# EAGLE library part EPF10K30-FBGA484 (library altera)
EPF10K30A FLEX 10K family
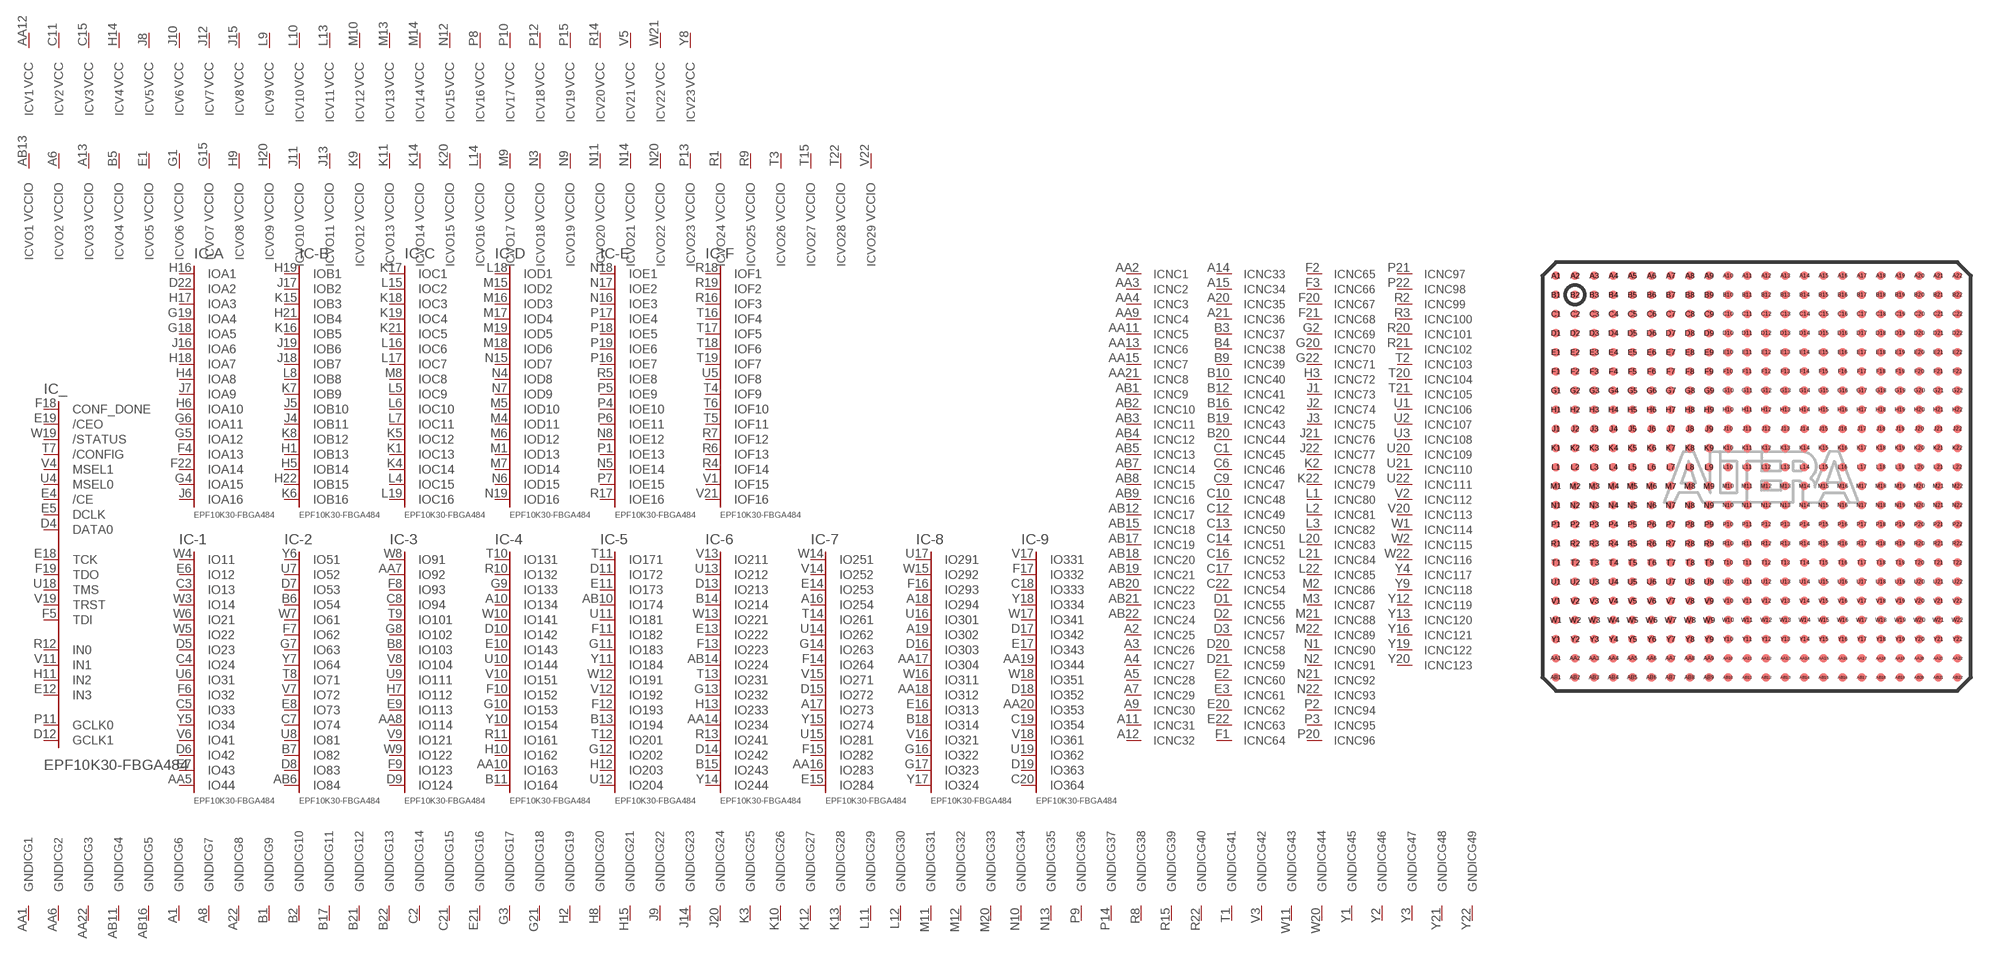
[diagram p51: symbol with the pads of FBGA484; footprint FBGA484]

Designator prefix IC; gates _=100R240C -A=A16 -B=B16 -C=C16 -D=D16 -E=E16 -F=F16 -1=IO44 -2=IO84 -3=IO124 -4=IO164 -5=IO204 -6=IO244 -7=IO284 -8=IO324 -9=IO364 G1=GND G2=GND G3=GND G4=GND G5=GND G6=GND G7=GND G8=GND G9=GND G10=GND G11=GND G12=GND G13=GND G14=GND G15=GND G16=GND G17=GND G18=GND G19=GND G20=GND G21=GND G22=GND G23=GND G24=GND G25=GND G26=GND G27=GND G28=GND G29=GND G30=GND G31=GND G32=GND G33=GND G34=GND G35=GND G36=GND G37=GND G38=GND G39=GND G40=GND G41=GND G42=GND G43=GND G44=GND G45=GND G46=GND G47=GND G48=GND G49=GND NC1=NC NC2=NC NC3=NC NC4=NC NC5=NC NC6=NC NC7=NC NC8=NC NC9=NC NC10=NC NC11=NC NC12=NC NC13=NC NC14=NC NC15=NC NC16=NC NC17=NC NC18=NC NC19=NC NC20=NC NC21=NC NC22=NC NC23=NC NC24=NC NC25=NC NC26=NC NC27=NC NC28=NC NC29=NC NC30=NC NC31=NC NC32=NC NC33=NC NC34=NC NC35=NC NC36=NC NC37=NC NC38=NC NC39=NC NC40=NC NC41=NC NC42=NC NC43=NC NC44=NC NC45=NC NC46=NC NC47=NC NC48=NC NC49=NC NC50=NC NC51=NC NC52=NC NC53=NC NC54=NC NC55=NC NC56=NC NC57=NC NC58=NC NC59=NC NC60=NC NC61=NC NC62=NC NC63=NC NC64=NC NC65=NC NC66=NC NC67=NC NC68=NC NC69=NC NC70=NC NC71=NC NC72=NC NC73=NC NC74=NC NC75=NC NC76=NC NC77=NC NC78=NC NC79=NC NC80=NC NC81=NC NC82=NC NC83=NC NC84=NC NC85=NC NC86=NC NC87=NC NC88=NC NC89=NC NC90=NC NC91=NC NC92=NC NC93=NC NC94=NC NC95=NC NC96=NC NC97=NC NC98=NC NC99=NC NC100=NC NC101=NC NC102=NC NC103=NC NC104=NC NC105=NC NC106=NC NC107=NC NC108=NC NC109=NC NC110=NC NC111=NC NC112=NC NC113=NC NC114=NC NC115=NC NC116=NC NC117=NC NC118=NC NC119=NC NC120=NC NC121=NC NC122=NC NC123=NC V1=VCCINT V2=VCCINT V3=VCCINT V4=VCCINT V5=VCCINT V6=VCCINT V7=VCCINT V8=VCCINT V9=VCCINT V10=VCCINT V11=VCCINT V12=VCCINT V13=VCCINT V14=VCCINT V15=VCCINT V16=VCCINT V17=VCCINT V18=VCCINT V19=VCCINT V20=VCCINT V21=VCCINT V22=VCCINT V23=VCCINT VO1=VCCIO VO2=VCCIO VO3=VCCIO VO4=VCCIO VO5=VCCIO VO6=VCCIO VO7=VCCIO VO8=VCCIO VO9=VCCIO VO10=VCCIO VO11=VCCIO VO12=VCCIO VO13=VCCIO VO14=VCCIO VO15=VCCIO VO16=VCCIO VO17=VCCIO VO18=VCCIO VO19=VCCIO VO20=VCCIO VO21=VCCIO VO22=VCCIO VO23=VCCIO VO24=VCCIO VO25=VCCIO VO26=VCCIO VO27=VCCIO VO28=VCCIO VO29=VCCIO

## EPF10K30-FBGA484  [FBGA484]
A1  G6:GND  pwr
A2  NC25:NC  nc
A3  NC26:NC  nc
A4  NC27:NC  nc
A5  NC28:NC  nc
A6  VO2:VCCIO  pwr
A7  NC29:NC  nc
A8  G7:GND  pwr
A9  NC30:NC  nc
A10  -4:IO134
A11  NC31:NC  nc
A12  NC32:NC  nc
A13  VO3:VCCIO  pwr
A14  NC33:NC  nc
A15  NC34:NC  nc
A16  -7:IO254
A17  -7:IO273
A18  -8:IO294
A19  -8:IO302
A20  NC35:NC  nc
A21  NC36:NC  nc
A22  G8:GND  pwr
AA1  G1:GND  pwr
AA2  NC1:NC  nc
AA3  NC2:NC  nc
AA4  NC3:NC  nc
AA5  -1:IO44
AA6  G2:GND  pwr
AA7  -3:IO92
AA8  -3:IO114
AA9  NC4:NC  nc
AA10  -4:IO163
AA11  NC5:NC  nc
AA12  V1:VCC  pwr
AA13  NC6:NC  nc
AA14  -6:IO234
AA15  NC7:NC  nc
AA16  -7:IO283
AA17  -8:IO304
AA18  -8:IO312
AA19  -9:IO344
AA20  -9:IO353
AA21  NC8:NC  nc
AA22  G3:GND  pwr
AB1  NC9:NC  nc
AB2  NC10:NC  nc
AB3  NC11:NC  nc
AB4  NC12:NC  nc
AB5  NC13:NC  nc
AB6  -2:IO84
AB7  NC14:NC  nc
AB8  NC15:NC  nc
AB9  NC16:NC  nc
AB10  -5:IO174
AB11  G4:GND  pwr
AB12  NC17:NC  nc
AB13  VO1:VCCIO  pwr
AB14  -6:IO224
AB15  NC18:NC  nc
AB16  G5:GND  pwr
AB17  NC19:NC  nc
AB18  NC20:NC  nc
AB19  NC21:NC  nc
AB20  NC22:NC  nc
AB21  NC23:NC  nc
AB22  NC24:NC  nc
B1  G9:GND  pwr
B2  G10:GND  pwr
B3  NC37:NC  nc
B4  NC38:NC  nc
B5  VO4:VCCIO  pwr
B6  -2:IO54
B7  -2:IO82
B8  -3:IO103
B9  NC39:NC  nc
B10  NC40:NC  nc
B11  -4:IO164
B12  NC41:NC  nc
B13  -5:IO194
B14  -6:IO214
B15  -6:IO243
B16  NC42:NC  nc
B17  G11:GND  pwr
B18  -8:IO314
B19  NC43:NC  nc
B20  NC44:NC  nc
B21  G12:GND  pwr
B22  G13:GND  pwr
C1  NC45:NC  nc
C2  G14:GND  pwr
C3  -1:IO13
C4  -1:IO24
C5  -1:IO33
C6  NC46:NC  nc
C7  -2:IO74
C8  -3:IO94
C9  NC47:NC  nc
C10  NC48:NC  nc
C11  V2:VCC  pwr
C12  NC49:NC  nc
C13  NC50:NC  nc
C14  NC51:NC  nc
C15  V3:VCC  pwr
C16  NC52:NC  nc
C17  NC53:NC  nc
C18  -9:IO333
C19  -9:IO354
C20  -9:IO364
C21  G15:GND  pwr
C22  NC54:NC  nc
D1  NC55:NC  nc
D2  NC56:NC  nc
D3  NC57:NC  nc
D4  _:DATA0  in
D5  -1:IO23
D6  -1:IO42
D7  -2:IO53
D8  -2:IO83
D9  -3:IO124
D10  -4:IO142
D11  -5:IO172
D12  _:GCLK1  in
D13  -6:IO213
D14  -6:IO242
D15  -7:IO272
D16  -8:IO303
D17  -9:IO342
D18  -9:IO352
D19  -9:IO363
D20  NC58:NC  nc
D21  NC59:NC  nc
D22  -A:IOA2
E1  VO5:VCCIO  pwr
E2  NC60:NC  nc
E3  NC61:NC  nc
E4  _:/CE  in
E5  _:DCLK  in
E6  -1:IO12
E7  -1:IO43
E8  -2:IO73
E9  -3:IO113
E10  -4:IO143
E11  -5:IO173
E12  _:IN3  in
E13  -6:IO222
E14  -7:IO253
E15  -7:IO284
E16  -8:IO313
E17  -9:IO343
E18  _:TCK
E19  _:/CEO  in
E20  NC62:NC  nc
E21  G16:GND  pwr
E22  NC63:NC  nc
F1  NC64:NC  nc
F2  NC65:NC  nc
F3  NC66:NC  nc
F4  -A:IOA13
F5  _:TDI
F6  -1:IO32
F7  -2:IO62
F8  -3:IO93
F9  -3:IO123
F10  -4:IO152
F11  -5:IO182
F12  -5:IO193
F13  -6:IO223
F14  -7:IO264
F15  -7:IO282
F16  -8:IO293
F17  -9:IO332
F18  _:CONF_DONE  in
F19  _:TDO
F20  NC67:NC  nc
F21  NC68:NC  nc
F22  -A:IOA14
G1  VO6:VCCIO  pwr
G2  NC69:NC  nc
G3  G17:GND  pwr
G4  -A:IOA15
G5  -A:IOA12
G6  -A:IOA11
G7  -2:IO63
G8  -3:IO102
G9  -4:IO133
G10  -4:IO153
G11  -5:IO183
G12  -5:IO202
G13  -6:IO232
G14  -7:IO263
G15  VO7:VCCIO  pwr
G16  -8:IO322
G17  -8:IO323
G18  -A:IOA5
G19  -A:IOA4
G20  NC70:NC  nc
G21  G18:GND  pwr
G22  NC71:NC  nc
H1  -B:IOB13
H2  G19:GND  pwr
H3  NC72:NC  nc
H4  -A:IOA8
H5  -B:IOB14
H6  -A:IOA10
H7  -3:IO112
H8  G20:GND  pwr
H9  VO8:VCCIO  pwr
H10  -4:IO162
H11  _:IN2  in
H12  -5:IO203
H13  -6:IO233
H14  V4:VCC  pwr
H15  G21:GND  pwr
H16  -A:IOA1
H17  -A:IOA3
H18  -A:IOA7
H19  -B:IOB1
H20  VO9:VCCIO  pwr
H21  -B:IOB4
H22  -B:IOB15
J1  NC73:NC  nc
J2  NC74:NC  nc
J3  NC75:NC  nc
J4  -B:IOB11
J5  -B:IOB10
J6  -A:IOA16
J7  -A:IOA9
J8  V5:VCC  pwr
J9  G22:GND  pwr
J10  V6:VCC  pwr
J11  VO10:VCCIO  pwr
J12  V7:VCC  pwr
J13  VO11:VCCIO  pwr
J14  G23:GND  pwr
J15  V8:VCC  pwr
J16  -A:IOA6
J17  -B:IOB2
J18  -B:IOB7
J19  -B:IOB6
J20  G24:GND  pwr
J21  NC76:NC  nc
J22  NC77:NC  nc
K1  -C:IOC13
K2  NC78:NC  nc
K3  G25:GND  pwr
K4  -C:IOC14
K5  -C:IOC12
K6  -B:IOB16
K7  -B:IOB9
K8  -B:IOB12
K9  VO12:VCCIO  pwr
K10  G26:GND  pwr
K11  VO13:VCCIO  pwr
K12  G27:GND  pwr
K13  G28:GND  pwr
K14  VO14:VCCIO  pwr
K15  -B:IOB3
K16  -B:IOB5
K17  -C:IOC1
K18  -C:IOC3
K19  -C:IOC4
K20  VO15:VCCIO  pwr
K21  -C:IOC5
K22  NC79:NC  nc
L1  NC80:NC  nc
L2  NC81:NC  nc
L3  NC82:NC  nc
L4  -C:IOC15
L5  -C:IOC9
L6  -C:IOC10
L7  -C:IOC11
L8  -B:IOB8
L9  V9:VCC  pwr
L10  V10:VCC  pwr
L11  G29:GND  pwr
L12  G30:GND  pwr
L13  V11:VCC  pwr
L14  VO16:VCCIO  pwr
L15  -C:IOC2
L16  -C:IOC6
L17  -C:IOC7
L18  -D:IOD1
L19  -C:IOC16
L20  NC83:NC  nc
L21  NC84:NC  nc
L22  NC85:NC  nc
M1  -D:IOD13
M2  NC86:NC  nc
M3  NC87:NC  nc
M4  -D:IOD11
M5  -D:IOD10
M6  -D:IOD12
M7  -D:IOD14
M8  -C:IOC8
M9  VO17:VCCIO  pwr
M10  V12:VCC  pwr
M11  G31:GND  pwr
M12  G32:GND  pwr
M13  V13:VCC  pwr
M14  V14:VCC  pwr
M15  -D:IOD2
M16  -D:IOD3
M17  -D:IOD4
M18  -D:IOD6
M19  -D:IOD5
M20  G33:GND  pwr
M21  NC88:NC  nc
M22  NC89:NC  nc
N1  NC90:NC  nc
N2  NC91:NC  nc
N3  VO18:VCCIO  pwr
N4  -D:IOD8
N5  -E:IOE14
N6  -D:IOD15
N7  -D:IOD9
N8  -E:IOE12
N9  VO19:VCCIO  pwr
N10  G34:GND  pwr
N11  VO20:VCCIO  pwr
N12  V15:VCC  pwr
N13  G35:GND  pwr
N14  VO21:VCCIO  pwr
N15  -D:IOD7
N16  -E:IOE3
N17  -E:IOE2
N18  -E:IOE1
N19  -D:IOD16
N20  VO22:VCCIO  pwr
N21  NC92:NC  nc
N22  NC93:NC  nc
P1  -E:IOE13
P2  NC94:NC  nc
P3  NC95:NC  nc
P4  -E:IOE10
P5  -E:IOE9
P6  -E:IOE11
P7  -E:IOE15
P8  V16:VCC  pwr
P9  G36:GND  pwr
P10  V17:VCC  pwr
P11  _:GCLK0  in
P12  V18:VCC  pwr
P13  VO23:VCCIO  pwr
P14  G37:GND  pwr
P15  V19:VCC  pwr
P16  -E:IOE7
P17  -E:IOE4
P18  -E:IOE5
P19  -E:IOE6
P20  NC96:NC  nc
P21  NC97:NC  nc
P22  NC98:NC  nc
R1  VO24:VCCIO  pwr
R2  NC99:NC  nc
R3  NC100:NC  nc
R4  -F:IOF14
R5  -E:IOE8
R6  -F:IOF13
R7  -F:IOF12
R8  G38:GND  pwr
R9  VO25:VCCIO  pwr
R10  -4:IO132
R11  -4:IO161
R12  _:IN0  in
R13  -6:IO241
R14  V20:VCC  pwr
R15  G39:GND  pwr
R16  -F:IOF3
R17  -E:IOE16
R18  -F:IOF1
R19  -F:IOF2
R20  NC101:NC  nc
R21  NC102:NC  nc
R22  G40:GND  pwr
T1  G41:GND  pwr
T2  NC103:NC  nc
T3  VO26:VCCIO  pwr
T4  -F:IOF9
T5  -F:IOF11
T6  -F:IOF10
T7  _:/CONFIG  in
T8  -2:IO71
T9  -3:IO101
T10  -4:IO131
T11  -5:IO171
T12  -5:IO201
T13  -6:IO231
T14  -7:IO261
T15  VO27:VCCIO  pwr
T16  -F:IOF4
T17  -F:IOF5
T18  -F:IOF6
T19  -F:IOF7
T20  NC104:NC  nc
T21  NC105:NC  nc
T22  VO28:VCCIO  pwr
U1  NC106:NC  nc
U2  NC107:NC  nc
U3  NC108:NC  nc
U4  _:MSEL0  in
U5  -F:IOF8
U6  -1:IO31
U7  -2:IO52
U8  -2:IO81
U9  -3:IO111
U10  -4:IO144
U11  -5:IO181
U12  -5:IO204
U13  -6:IO212
U14  -7:IO262
U15  -7:IO281
U16  -8:IO301
U17  -8:IO291
U18  _:TMS
U19  -9:IO362
U20  NC109:NC  nc
U21  NC110:NC  nc
U22  NC111:NC  nc
V1  -F:IOF15
V2  NC112:NC  nc
V3  G42:GND  pwr
V4  _:MSEL1  in
V5  V21:VCC  pwr
V6  -1:IO41
V7  -2:IO72
V8  -3:IO104
V9  -3:IO121
V10  -4:IO151
V11  _:IN1  in
V12  -5:IO192
V13  -6:IO211
V14  -7:IO252
V15  -7:IO271
V16  -8:IO321
V17  -9:IO331
V18  -9:IO361
V19  _:TRST
V20  NC113:NC  nc
V21  -F:IOF16
V22  VO29:VCCIO  pwr
W1  NC114:NC  nc
W2  NC115:NC  nc
W3  -1:IO14
W4  -1:IO11
W5  -1:IO22
W6  -1:IO21
W7  -2:IO61
W8  -3:IO91
W9  -3:IO122
W10  -4:IO141
W11  G43:GND  pwr
W12  -5:IO191
W13  -6:IO221
W14  -7:IO251
W15  -8:IO292
W16  -8:IO311
W17  -9:IO341
W18  -9:IO351
W19  _:/STATUS  in
W20  G44:GND  pwr
W21  V22:VCC  pwr
W22  NC116:NC  nc
Y1  G45:GND  pwr
Y2  G46:GND  pwr
Y3  G47:GND  pwr
Y4  NC117:NC  nc
Y5  -1:IO34
Y6  -2:IO51
Y7  -2:IO64
Y8  V23:VCC  pwr
Y9  NC118:NC  nc
Y10  -4:IO154
Y11  -5:IO184
Y12  NC119:NC  nc
Y13  NC120:NC  nc
Y14  -6:IO244
Y15  -7:IO274
Y16  NC121:NC  nc
Y17  -8:IO324
Y18  -9:IO334
Y19  NC122:NC  nc
Y20  NC123:NC  nc
Y21  G48:GND  pwr
Y22  G49:GND  pwr

## Footprint FBGA484 (pad centres in mm)
Fine Ball Grid Array
smd 0.45 x 0.45: A1 -10.5,10.5; A2 -9.5,10.5; A3 -8.5,10.5; A4 -7.5,10.5; A5 -6.5,10.5; A6 -5.5,10.5; A7 -4.5,10.5; A8 -3.5,10.5; A9 -2.5,10.5; A10 -1.5,10.5; A11 -0.5,10.5; A12 0.5,10.5; A13 1.5,10.5; A14 2.5,10.5; A15 3.5,10.5; A16 4.5,10.5; A17 5.5,10.5; A18 6.5,10.5; A19 7.5,10.5; A20 8.5,10.5; A21 9.5,10.5; A22 10.5,10.5; AA1 -10.5,-9.5; AA2 -9.5,-9.5; AA3 -8.5,-9.5; AA4 -7.5,-9.5; AA5 -6.5,-9.5; AA6 -5.5,-9.5; AA7 -4.5,-9.5; AA8 -3.5,-9.5; AA9 -2.5,-9.5; AA10 -1.5,-9.5; AA11 -0.5,-9.5; AA12 0.5,-9.5; AA13 1.5,-9.5; AA14 2.5,-9.5; AA15 3.5,-9.5; AA16 4.5,-9.5; AA17 5.5,-9.5; AA18 6.5,-9.5; AA19 7.5,-9.5; AA20 8.5,-9.5; AA21 9.5,-9.5; AA22 10.5,-9.5; AB1 -10.5,-10.5; AB2 -9.5,-10.5; AB3 -8.5,-10.5; AB4 -7.5,-10.5; AB5 -6.5,-10.5; AB6 -5.5,-10.5; AB7 -4.5,-10.5; AB8 -3.5,-10.5; AB9 -2.5,-10.5; AB10 -1.5,-10.5; AB11 -0.5,-10.5; AB12 0.5,-10.5; AB13 1.5,-10.5; AB14 2.5,-10.5; AB15 3.5,-10.5; AB16 4.5,-10.5; AB17 5.5,-10.5; AB18 6.5,-10.5; AB19 7.5,-10.5; AB20 8.5,-10.5; AB21 9.5,-10.5; AB22 10.5,-10.5; B1 -10.5,9.5; B2 -9.5,9.5; B3 -8.5,9.5; B4 -7.5,9.5; B5 -6.5,9.5; B6 -5.5,9.5; B7 -4.5,9.5; B8 -3.5,9.5; B9 -2.5,9.5; B10 -1.5,9.5; B11 -0.5,9.5; B12 0.5,9.5; B13 1.5,9.5; B14 2.5,9.5; B15 3.5,9.5; B16 4.5,9.5; B17 5.5,9.5; B18 6.5,9.5; B19 7.5,9.5; B20 8.5,9.5; B21 9.5,9.5; B22 10.5,9.5; C1 -10.5,8.5; C2 -9.5,8.5; C3 -8.5,8.5; C4 -7.5,8.5; C5 -6.5,8.5; C6 -5.5,8.5; C7 -4.5,8.5; C8 -3.5,8.5; C9 -2.5,8.5; C10 -1.5,8.5; C11 -0.5,8.5; C12 0.5,8.5; C13 1.5,8.5; C14 2.5,8.5; C15 3.5,8.5; C16 4.5,8.5; C17 5.5,8.5; C18 6.5,8.5; C19 7.5,8.5; C20 8.5,8.5; C21 9.5,8.5; C22 10.5,8.5; D1 -10.5,7.5; D2 -9.5,7.5; D3 -8.5,7.5; D4 -7.5,7.5; D5 -6.5,7.5; D6 -5.5,7.5; D7 -4.5,7.5; D8 -3.5,7.5; D9 -2.5,7.5; D10 -1.5,7.5; D11 -0.5,7.5; D12 0.5,7.5; D13 1.5,7.5; D14 2.5,7.5; D15 3.5,7.5; D16 4.5,7.5; D17 5.5,7.5; D18 6.5,7.5; D19 7.5,7.5; D20 8.5,7.5; D21 9.5,7.5; D22 10.5,7.5; E1 -10.5,6.5; E2 -9.5,6.5; E3 -8.5,6.5; E4 -7.5,6.5; E5 -6.5,6.5; E6 -5.5,6.5; E7 -4.5,6.5; E8 -3.5,6.5; E9 -2.5,6.5; E10 -1.5,6.5; E11 -0.5,6.5; E12 0.5,6.5; E13 1.5,6.5; E14 2.5,6.5; E15 3.5,6.5; E16 4.5,6.5; E17 5.5,6.5; E18 6.5,6.5; E19 7.5,6.5; E20 8.5,6.5; E21 9.5,6.5; E22 10.5,6.5; F1 -10.5,5.5; F2 -9.5,5.5; F3 -8.5,5.5; F4 -7.5,5.5; F5 -6.5,5.5; F6 -5.5,5.5; F7 -4.5,5.5; F8 -3.5,5.5; F9 -2.5,5.5; F10 -1.5,5.5; F11 -0.5,5.5; F12 0.5,5.5; F13 1.5,5.5; F14 2.5,5.5; F15 3.5,5.5; F16 4.5,5.5; F17 5.5,5.5; F18 6.5,5.5; F19 7.5,5.5; F20 8.5,5.5; F21 9.5,5.5; F22 10.5,5.5; G1 -10.5,4.5; G2 -9.5,4.5; G3 -8.5,4.5; G4 -7.5,4.5; G5 -6.5,4.5; G6 -5.5,4.5; G7 -4.5,4.5; G8 -3.5,4.5; G9 -2.5,4.5; G10 -1.5,4.5; G11 -0.5,4.5; G12 0.5,4.5; G13 1.5,4.5; G14 2.5,4.5; G15 3.5,4.5; G16 4.5,4.5; G17 5.5,4.5; G18 6.5,4.5; G19 7.5,4.5; G20 8.5,4.5; G21 9.5,4.5; G22 10.5,4.5; H1 -10.5,3.5; H2 -9.5,3.5; H3 -8.5,3.5; H4 -7.5,3.5; H5 -6.5,3.5; H6 -5.5,3.5; H7 -4.5,3.5; H8 -3.5,3.5; H9 -2.5,3.5; H10 -1.5,3.5; H11 -0.5,3.5; H12 0.5,3.5; H13 1.5,3.5; H14 2.5,3.5; H15 3.5,3.5; H16 4.5,3.5; H17 5.5,3.5; H18 6.5,3.5; H19 7.5,3.5; H20 8.5,3.5; H21 9.5,3.5; H22 10.5,3.5; J1 -10.5,2.5; J2 -9.5,2.5; J3 -8.5,2.5; J4 -7.5,2.5; J5 -6.5,2.5; J6 -5.5,2.5; J7 -4.5,2.5; J8 -3.5,2.5; J9 -2.5,2.5; J10 -1.5,2.5; J11 -0.5,2.5; J12 0.5,2.5; J13 1.5,2.5; J14 2.5,2.5; J15 3.5,2.5; J16 4.5,2.5; J17 5.5,2.5; J18 6.5,2.5; J19 7.5,2.5; J20 8.5,2.5; J21 9.5,2.5; J22 10.5,2.5; K1 -10.5,1.5; K2 -9.5,1.5; K3 -8.5,1.5; K4 -7.5,1.5; K5 -6.5,1.5; K6 -5.5,1.5; K7 -4.5,1.5; K8 -3.5,1.5; K9 -2.5,1.5; K10 -1.5,1.5; K11 -0.5,1.5; K12 0.5,1.5; K13 1.5,1.5; K14 2.5,1.5; K15 3.5,1.5; K16 4.5,1.5; K17 5.5,1.5; K18 6.5,1.5; K19 7.5,1.5; K20 8.5,1.5; K21 9.5,1.5; K22 10.5,1.5; L1 -10.5,0.5; L2 -9.5,0.5; L3 -8.5,0.5; L4 -7.5,0.5; L5 -6.5,0.5; L6 -5.5,0.5; L7 -4.5,0.5; L8 -3.5,0.5; L9 -2.5,0.5; L10 -1.5,0.5; L11 -0.5,0.5; L12 0.5,0.5; L13 1.5,0.5; L14 2.5,0.5; L15 3.5,0.5; L16 4.5,0.5; L17 5.5,0.5; L18 6.5,0.5; L19 7.5,0.5; L20 8.5,0.5; L21 9.5,0.5; L22 10.5,0.5; M1 -10.5,-0.5; M2 -9.5,-0.5; M3 -8.5,-0.5; M4 -7.5,-0.5; M5 -6.5,-0.5; M6 -5.5,-0.5; M7 -4.5,-0.5; M8 -3.5,-0.5; M9 -2.5,-0.5; M10 -1.5,-0.5; M11 -0.5,-0.5; M12 0.5,-0.5; M13 1.5,-0.5; M14 2.5,-0.5; M15 3.5,-0.5; M16 4.5,-0.5; M17 5.5,-0.5; M18 6.5,-0.5; M19 7.5,-0.5; M20 8.5,-0.5; M21 9.5,-0.5; M22 10.5,-0.5; N1 -10.5,-1.5; N2 -9.5,-1.5; N3 -8.5,-1.5; N4 -7.5,-1.5; N5 -6.5,-1.5; N6 -5.5,-1.5; N7 -4.5,-1.5; N8 -3.5,-1.5; N9 -2.5,-1.5; N10 -1.5,-1.5; N11 -0.5,-1.5; N12 0.5,-1.5; N13 1.5,-1.5; N14 2.5,-1.5; N15 3.5,-1.5; N16 4.5,-1.5; N17 5.5,-1.5; N18 6.5,-1.5; N19 7.5,-1.5; N20 8.5,-1.5; N21 9.5,-1.5; N22 10.5,-1.5; P1 -10.5,-2.5; P2 -9.5,-2.5; P3 -8.5,-2.5; P4 -7.5,-2.5; P5 -6.5,-2.5; P6 -5.5,-2.5; P7 -4.5,-2.5; P8 -3.5,-2.5; P9 -2.5,-2.5; P10 -1.5,-2.5; P11 -0.5,-2.5; P12 0.5,-2.5; P13 1.5,-2.5; P14 2.5,-2.5; P15 3.5,-2.5; P16 4.5,-2.5; P17 5.5,-2.5; P18 6.5,-2.5; P19 7.5,-2.5; P20 8.5,-2.5; P21 9.5,-2.5; P22 10.5,-2.5; R1 -10.5,-3.5; R2 -9.5,-3.5; R3 -8.5,-3.5; R4 -7.5,-3.5; R5 -6.5,-3.5; R6 -5.5,-3.5; R7 -4.5,-3.5; R8 -3.5,-3.5; R9 -2.5,-3.5; R10 -1.5,-3.5; R11 -0.5,-3.5; R12 0.5,-3.5; R13 1.5,-3.5; R14 2.5,-3.5; R15 3.5,-3.5; R16 4.5,-3.5; R17 5.5,-3.5; R18 6.5,-3.5; R19 7.5,-3.5; R20 8.5,-3.5; R21 9.5,-3.5; R22 10.5,-3.5; T1 -10.5,-4.5; T2 -9.5,-4.5; T3 -8.5,-4.5; T4 -7.5,-4.5; T5 -6.5,-4.5; T6 -5.5,-4.5; T7 -4.5,-4.5; T8 -3.5,-4.5; T9 -2.5,-4.5; T10 -1.5,-4.5; T11 -0.5,-4.5; T12 0.5,-4.5; T13 1.5,-4.5; T14 2.5,-4.5; T15 3.5,-4.5; T16 4.5,-4.5; T17 5.5,-4.5; T18 6.5,-4.5; T19 7.5,-4.5; T20 8.5,-4.5; T21 9.5,-4.5; T22 10.5,-4.5; U1 -10.5,-5.5; U2 -9.5,-5.5; U3 -8.5,-5.5; U4 -7.5,-5.5; U5 -6.5,-5.5; U6 -5.5,-5.5; U7 -4.5,-5.5; U8 -3.5,-5.5; U9 -2.5,-5.5; U10 -1.5,-5.5; U11 -0.5,-5.5; U12 0.5,-5.5; U13 1.5,-5.5; U14 2.5,-5.5; U15 3.5,-5.5; U16 4.5,-5.5; U17 5.5,-5.5; U18 6.5,-5.5; U19 7.5,-5.5; U20 8.5,-5.5; U21 9.5,-5.5; U22 10.5,-5.5; V1 -10.5,-6.5; V2 -9.5,-6.5; V3 -8.5,-6.5; V4 -7.5,-6.5; V5 -6.5,-6.5; V6 -5.5,-6.5; V7 -4.5,-6.5; V8 -3.5,-6.5; V9 -2.5,-6.5; V10 -1.5,-6.5; V11 -0.5,-6.5; V12 0.5,-6.5; V13 1.5,-6.5; V14 2.5,-6.5; V15 3.5,-6.5; V16 4.5,-6.5; V17 5.5,-6.5; V18 6.5,-6.5; V19 7.5,-6.5; V20 8.5,-6.5; V21 9.5,-6.5; V22 10.5,-6.5; W1 -10.5,-7.5; W2 -9.5,-7.5; W3 -8.5,-7.5; W4 -7.5,-7.5; W5 -6.5,-7.5; W6 -5.5,-7.5; W7 -4.5,-7.5; W8 -3.5,-7.5; W9 -2.5,-7.5; W10 -1.5,-7.5; W11 -0.5,-7.5; W12 0.5,-7.5; W13 1.5,-7.5; W14 2.5,-7.5; W15 3.5,-7.5; W16 4.5,-7.5; W17 5.5,-7.5; W18 6.5,-7.5; W19 7.5,-7.5; W20 8.5,-7.5; W21 9.5,-7.5; W22 10.5,-7.5; Y1 -10.5,-8.5; Y2 -9.5,-8.5; Y3 -8.5,-8.5; Y4 -7.5,-8.5; Y5 -6.5,-8.5; Y6 -5.5,-8.5; Y7 -4.5,-8.5; Y8 -3.5,-8.5; Y9 -2.5,-8.5; Y10 -1.5,-8.5; Y11 -0.5,-8.5; Y12 0.5,-8.5; Y13 1.5,-8.5; Y14 2.5,-8.5; Y15 3.5,-8.5; Y16 4.5,-8.5; Y17 5.5,-8.5; Y18 6.5,-8.5; Y19 7.5,-8.5; Y20 8.5,-8.5; Y21 9.5,-8.5; Y22 10.5,-8.5